# EAGLE library part JTAG (library BB8)
http://www.digikey.com/product-detail/en/cnc-tech/3020-20-0100-00/1175-1612-ND/3441738
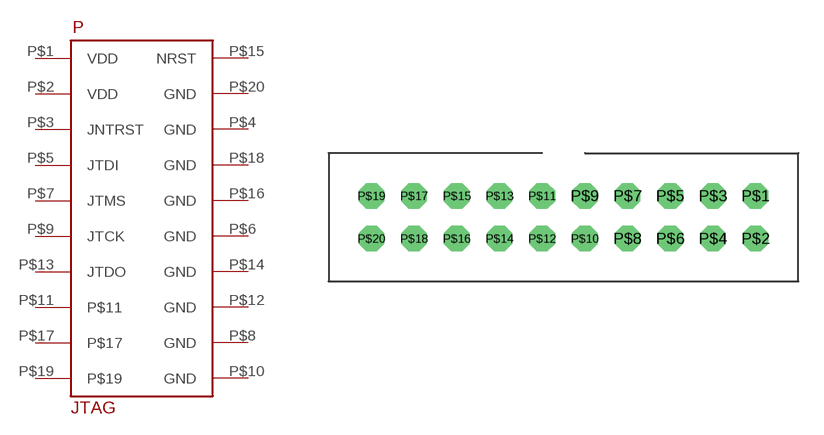
[diagram p10: symbol with the pads of IDC20; footprint IDC20]

Designator prefix P

## JTAG  [IDC20]
P$1  VDD
P$2  VDD
P$3  JNTRST
P$4  GND
P$5  JTDI
P$6  GND
P$7  JTMS
P$8  GND
P$9  JTCK
P$10  GND
P$11  P$11
P$12  GND
P$13  JTDO
P$14  GND
P$15  NRST
P$16  GND
P$17  P$17
P$18  GND
P$19  P$19
P$20  GND

## Footprint IDC20 (pad centres in mm)
drill 1.02 octagon: P$1 22.86,2.54; P$2 22.86,0; P$3 20.32,2.54; P$4 20.32,0; P$5 17.78,2.54; P$6 17.78,0; P$7 15.24,2.54; P$8 15.24,0; P$9 12.7,2.54; P$10 12.7,0; P$11 10.16,2.54; P$12 10.16,0; P$13 7.62,2.54; P$14 7.62,0; P$15 5.08,2.54; P$16 5.08,0; P$17 2.54,2.54; P$18 2.54,0; P$19 0,2.54; P$20 0,0